# Altium schematic symbol library PE43205B.SchLib: 1 symbol
Pins are listed as number, name and electrical type; pins without a type are passive.

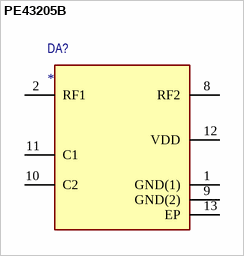
[diagram p0: symbol PE43205B]

## PE43205B
designator DA?
UltraCMOS RF Digital Attenuator 2-bit, 18 dB, 35–6000 MHz
pins: 1 GND(1), 2 RF1, 8 RF2, 9 GND(2), 10 C2, 11 C1, 12 VDD, 13 EP